# Altium integrated library TI_Logic_Little_Logic.IntLib: 1164 symbols (part 20 of 35)
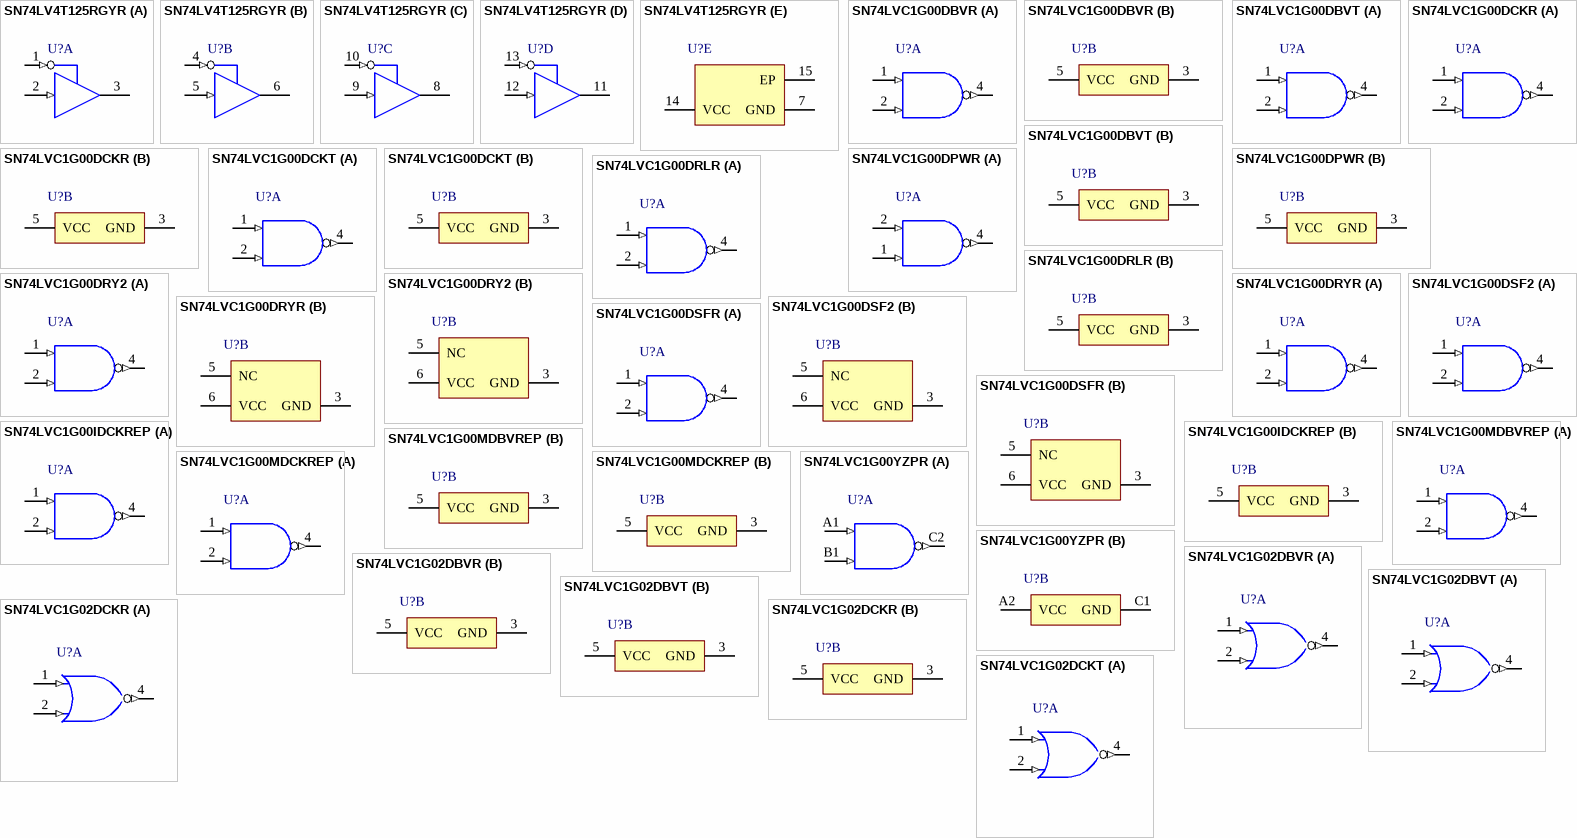
[diagram p79: symbols SN74LV4T125RGYR to SN74LVC1G02DCKT]

## SN74LVC1G00DCKT
designator U?
Single 2 Input Positive NAND Gate, DCK0005A, SMALL T&R; Generic Part Number: SN74LVC1G00; Manufacturer: Texas Instruments; PartNumber: SN74LVC1G00DCKT; VCC(Min)(V): 1.65; VCC(Max)(V): 5.5; Output Type: CMOS; ICC @ Nom Voltage(Max)(mA): 0.01; Input Type: CMOS/TTL; Bits(#): 1; F @ Nom Voltage(Max)(Mhz): 150; Rating: Catalog; Technology Family: LVC; Voltage(Nom)(V): 1.8,2.5,3.3,5; Schmitt Trigger: No; Output Drive (IOL/IOH)(Max)(mA): 32/-32; tpd @ Nom Voltage(Max)(ns): 9,5.5,4.7,4; Logic: True; DatasheetVersion: SCES212AB; PackageReference: DCK0005A; Supplier 1: Mouser; Supplier Part Number 1: 595-SN74LVC1G00DCKT; Supplier 2: Digi-Key; Supplier Part Number 2: 296-26587-2-ND; Supplier 3: Digi-Key; Supplier Part Number 3: 296-26587-1-ND; Supplier 4: Digi-Key; Supplier Part Number 4: 296-26587-6-ND; Operating Temperature Range(C): -40 to 125,-40 to 85; Gate Type: NAND; Sub-Family: NAND Gate; 3-State Output: No; ComponentLink1Description: Manufacturer URL; ComponentLink1URL: http://www.ti.com/; ComponentLink2Description: Datasheet; ComponentLink2URL: http://www.ti.com/lit/ds/symlink/sn74lvc1g00.pdf
footprint DCK0005A_N (SOT23, 5-Leads, Body 2.15x1.4mm, Pitch 0.65mm, IPC Medium Density)
footprint DCK0005A_M (SOT23, 5-Leads, Body 2.15x1.4mm, Pitch 0.65mm, IPC Low Density)
footprint DCK0005A_L (SOT23, 5-Leads, Body 2.15x1.4mm, Pitch 0.65mm, IPC High Density)
part A pins: 1 A (in) "Input A", 2 B (in) "Input B", 4 Y (out) "Output Y"
part B pins: 3 GND (power) "Ground Pin", 5 VCC (power) "Power Pin"

## SN74LVC1G00DPWR
designator U?
Single 2 Input Positive NAND Gate, DPW0004A, LARGE T&R; Generic Part Number: SN74LVC1G00; Manufacturer: Texas Instruments; PartNumber: SN74LVC1G00DPWR; VCC(Min)(V): 1.65; VCC(Max)(V): 5.5; Output Type: CMOS; ICC @ Nom Voltage(Max)(mA): 0.01; Input Type: CMOS/TTL; Bits(#): 1; F @ Nom Voltage(Max)(Mhz): 150; Rating: Catalog; Technology Family: LVC; Voltage(Nom)(V): 1.8,2.5,3.3,5; Schmitt Trigger: No; Output Drive (IOL/IOH)(Max)(mA): 32/-32; tpd @ Nom Voltage(Max)(ns): 9,5.5,4.7,4; Logic: True; DatasheetVersion: SCES212AB; PackageReference: DPW0004A; Supplier 1: Mouser; Supplier Part Number 1: 595-SN74LVC1G00DPWR; Supplier 2: Digi-Key; Supplier Part Number 2: 296-37554-2-ND; Supplier 3: Digi-Key; Supplier Part Number 3: 296-37554-1-ND; Supplier 4: Digi-Key; Supplier Part Number 4: 296-37554-6-ND; Operating Temperature Range(C): -40 to 125,-40 to 85; Gate Type: NAND; Sub-Family: NAND Gate; 3-State Output: No; ComponentLink1Description: Manufacturer URL; ComponentLink1URL: http://www.ti.com/; ComponentLink2Description: Datasheet; ComponentLink2URL: http://www.ti.com/lit/ds/symlink/sn74lvc1g00.pdf
footprint DPW0004A_V (SON, 5-Leads, Body 0.8x0.8mm, TI Recommend)
part A pins: 1 B (in) "Input B", 2 A (in) "Input A", 4 Y (out) "Output Y"
part B pins: 3 GND (power) "Ground", 5 VCC (power) "Power Pin"

## SN74LVC1G00DRLR
designator U?
Single 2 Input Positive NAND Gate, DRL0005A, LARGE T&R; Generic Part Number: SN74LVC1G00; Manufacturer: Texas Instruments; PartNumber: SN74LVC1G00DRLR; VCC(Min)(V): 1.65; VCC(Max)(V): 5.5; Output Type: CMOS; ICC @ Nom Voltage(Max)(mA): 0.01; Input Type: CMOS/TTL; Bits(#): 1; F @ Nom Voltage(Max)(Mhz): 150; Rating: Catalog; Technology Family: LVC; Voltage(Nom)(V): 1.8,2.5,3.3,5; Schmitt Trigger: No; Output Drive (IOL/IOH)(Max)(mA): 32/-32; tpd @ Nom Voltage(Max)(ns): 9,5.5,4.7,4; Logic: True; DatasheetVersion: SCES212AB; PackageReference: DRL0005A; Supplier 1: Mouser; Supplier Part Number 1: 595-SN74LVC1G00DRLR; Supplier 2: Digi-Key; Supplier Part Number 2: 296-18007-2-ND; Supplier 3: Digi-Key; Supplier Part Number 3: 296-18007-1-ND; Supplier 4: Digi-Key; Supplier Part Number 4: 296-18007-6-ND; Operating Temperature Range(C): -40 to 125,-40 to 85; Gate Type: NAND; Sub-Family: NAND Gate; 3-State Output: No; ComponentLink1Description: Manufacturer URL; ComponentLink1URL: http://www.ti.com/; ComponentLink2Description: Datasheet; ComponentLink2URL: http://www.ti.com/lit/ds/symlink/sn74lvc1g00.pdf
footprint DRL0005A_N (SOT23, 5-Leads, Body 1.7x1.3mm, Pitch 0.5mm, IPC Medium Density)
footprint DRL0005A_M (SOT23, 5-Leads, Body 1.7x1.3mm, Pitch 0.5mm, IPC Low Density)
footprint DRL0005A_L (SOT23, 5-Leads, Body 1.7x1.3mm, Pitch 0.5mm, IPC High Density)
part A pins: 1 A (in) "Input A", 2 B (in) "Input B", 4 Y (out) "Output Y"
part B pins: 3 GND (power) "Ground Pin", 5 VCC (power) "Power Pin"

## SN74LVC1G00DRY2
designator U?
Single 2 Input Positive NAND Gate, DRY0006A, LARGE T&R; Generic Part Number: SN74LVC1G00; Manufacturer: Texas Instruments; PartNumber: SN74LVC1G00DRY2; VCC(Min)(V): 1.65; VCC(Max)(V): 5.5; Output Type: CMOS; ICC @ Nom Voltage(Max)(mA): 0.01; Input Type: CMOS/TTL; Bits(#): 1; F @ Nom Voltage(Max)(Mhz): 150; Rating: Catalog; Technology Family: LVC; Voltage(Nom)(V): 1.8,2.5,3.3,5; Schmitt Trigger: No; Output Drive (IOL/IOH)(Max)(mA): 32/-32; tpd @ Nom Voltage(Max)(ns): 9,5.5,4.7,4; Logic: True; DatasheetVersion: SCES212AB; PackageReference: DRY0006A; Supplier 1: Mouser; Supplier Part Number 1: 595-SN74LVC1G00DRY2; Supplier 2: Digi-Key; Supplier Part Number 2: SN74LVC1G00DRY2-ND; Operating Temperature Range(C): -40 to 125,-40 to 85; Gate Type: NAND; Sub-Family: NAND Gate; 3-State Output: No; ComponentLink1Description: Manufacturer URL; ComponentLink1URL: http://www.ti.com/; ComponentLink2Description: Datasheet; ComponentLink2URL: http://www.ti.com/lit/ds/symlink/sn74lvc1g00.pdf
footprint DRY0006A_V (SON, 6-Leads, Body 1.45x1mm, Pitch 0.5mm)
part A pins: 1 A (in) "Input", 2 B (in) "Input", 4 Y (out) "Output"
part B pins: 3 GND (power) "Ground", 5 NC "No internal connection", 6 VCC (power) "Power Pin"

## SN74LVC1G00DRYR
designator U?
Single 2 Input Positive NAND Gate, DRY0006A, LARGE T&R; Generic Part Number: SN74LVC1G00; Manufacturer: Texas Instruments; PartNumber: SN74LVC1G00DRYR; VCC(Min)(V): 1.65; VCC(Max)(V): 5.5; Output Type: CMOS; ICC @ Nom Voltage(Max)(mA): 0.01; Input Type: CMOS/TTL; Bits(#): 1; F @ Nom Voltage(Max)(Mhz): 150; Rating: Catalog; Technology Family: LVC; Voltage(Nom)(V): 1.8,2.5,3.3,5; Schmitt Trigger: No; Output Drive (IOL/IOH)(Max)(mA): 32/-32; tpd @ Nom Voltage(Max)(ns): 9,5.5,4.7,4; Logic: True; DatasheetVersion: SCES212AB; PackageReference: DRY0006A; Supplier 1: Mouser; Supplier Part Number 1: 595-SN74LVC1G00DRYR; Supplier 2: Digi-Key; Supplier Part Number 2: 296-28371-2-ND; Supplier 3: Digi-Key; Supplier Part Number 3: 296-28371-1-ND; Supplier 4: Digi-Key; Supplier Part Number 4: 296-28371-6-ND; Operating Temperature Range(C): -40 to 125,-40 to 85; Gate Type: NAND; Sub-Family: NAND Gate; 3-State Output: No; ComponentLink1Description: Manufacturer URL; ComponentLink1URL: http://www.ti.com/; ComponentLink2Description: Datasheet; ComponentLink2URL: http://www.ti.com/lit/ds/symlink/sn74lvc1g00.pdf
footprint DRY0006A_V (SON, 6-Leads, Body 1.45x1mm, Pitch 0.5mm)
part A pins: 1 A (in) "Input", 2 B (in) "Input", 4 Y (out) "Output"
part B pins: 3 GND (power) "Ground", 5 NC "No internal connection", 6 VCC (power) "Power Pin"

## SN74LVC1G00DSF2
designator U?
Single 2 Input Positive NAND Gate, DSF0006A, LARGE T&R; Generic Part Number: SN74LVC1G00; Manufacturer: Texas Instruments; PartNumber: SN74LVC1G00DSF2; VCC(Min)(V): 1.65; VCC(Max)(V): 5.5; Output Type: CMOS; ICC @ Nom Voltage(Max)(mA): 0.01; Input Type: CMOS/TTL; Bits(#): 1; F @ Nom Voltage(Max)(Mhz): 150; Rating: Catalog; Technology Family: LVC; Voltage(Nom)(V): 1.8,2.5,3.3,5; Schmitt Trigger: No; Output Drive (IOL/IOH)(Max)(mA): 32/-32; tpd @ Nom Voltage(Max)(ns): 9,5.5,4.7,4; Logic: True; DatasheetVersion: SCES212AB; PackageReference: DSF0006A; Supplier 1: Mouser; Supplier Part Number 1: 595-SN74LVC1G00DSF2; Supplier 2: Digi-Key; Supplier Part Number 2: SN74LVC1G00DSF2-ND; Operating Temperature Range(C): -40 to 125,-40 to 85; Gate Type: NAND; Sub-Family: NAND Gate; 3-State Output: No; ComponentLink1Description: Manufacturer URL; ComponentLink1URL: http://www.ti.com/; ComponentLink2Description: Datasheet; ComponentLink2URL: http://www.ti.com/lit/ds/symlink/sn74lvc1g00.pdf
footprint DSF0006A_V (SON, 6-Leads, Body 1x1mm, Pitch 0.35mm, TI Recommend)
part A pins: 1 A (in) "Input", 2 B (in) "Input", 4 Y (out) "Output"
part B pins: 3 GND (power) "Ground", 5 NC "No internal connection", 6 VCC (power) "Power Pin"

## SN74LVC1G00DSFR
designator U?
Single 2 Input Positive NAND Gate, DSF0006A, LARGE T&R; Generic Part Number: SN74LVC1G00; Manufacturer: Texas Instruments; PartNumber: SN74LVC1G00DSFR; VCC(Min)(V): 1.65; VCC(Max)(V): 5.5; Output Type: CMOS; ICC @ Nom Voltage(Max)(mA): 0.01; Input Type: CMOS/TTL; Bits(#): 1; F @ Nom Voltage(Max)(Mhz): 150; Rating: Catalog; Technology Family: LVC; Voltage(Nom)(V): 1.8,2.5,3.3,5; Schmitt Trigger: No; Output Drive (IOL/IOH)(Max)(mA): 32/-32; tpd @ Nom Voltage(Max)(ns): 9,5.5,4.7,4; Logic: True; DatasheetVersion: SCES212AB; PackageReference: DSF0006A; Supplier 1: Mouser; Supplier Part Number 1: 595-SN74LVC1G00DSFR; Supplier 2: Digi-Key; Supplier Part Number 2: 296-28372-2-ND; Supplier 3: Digi-Key; Supplier Part Number 3: 296-28372-1-ND; Supplier 4: Digi-Key; Supplier Part Number 4: 296-28372-6-ND; Operating Temperature Range(C): -40 to 125,-40 to 85; Gate Type: NAND; Sub-Family: NAND Gate; 3-State Output: No; ComponentLink1Description: Manufacturer URL; ComponentLink1URL: http://www.ti.com/; ComponentLink2Description: Datasheet; ComponentLink2URL: http://www.ti.com/lit/ds/symlink/sn74lvc1g00.pdf
footprint DSF0006A_V (SON, 6-Leads, Body 1x1mm, Pitch 0.35mm, TI Recommend)
part A pins: 1 A (in) "Input", 2 B (in) "Input", 4 Y (out) "Output"
part B pins: 3 GND (power) "Ground", 5 NC "No internal connection", 6 VCC (power) "Power Pin"

## SN74LVC1G00IDCKREP
designator U?
Enhanced Product Single 2-Input Positive-Nand Gate, DCK0005A, LARGE T&R; Generic Part Number: SN74LVC1G00-EP; Manufacturer: Texas Instruments; PartNumber: SN74LVC1G00IDCKREP; VCC(Min)(V): 1.65; VCC(Max)(V): 5.5; Output Type: CMOS; ICC @ Nom Voltage(Max)(mA): 0.01; Input Type: CMOS/TTL; Bits(#): 1; F @ Nom Voltage(Max)(Mhz): 150; Rating: HiRel Enhanced Product; Technology Family: LVC; Voltage(Nom)(V): 1.8,2.5,3.3,5; Schmitt Trigger: No; Output Drive (IOL/IOH)(Max)(mA): 32/-32; tpd @ Nom Voltage(Max)(ns): 9,7,6.3,5; Logic: True; Gate Type: NAND; DatasheetVersion: SCES450D; PackageReference: DCK0005A; Supplier 1: Mouser; Supplier Part Number 1: 595-SN74LVC00IDCKREP; Supplier 2: Digi-Key; Supplier Part Number 2: 296-22337-2-ND; Supplier 3: Digi-Key; Supplier Part Number 3: 296-22337-1-ND; Supplier 4: Digi-Key; Supplier Part Number 4: 296-22337-6-ND; Operating Temperature Range(C): -40 to 85,-55 to 125; Sub-Family: NAND Gate; 3-State Output: No; ComponentLink1Description: Manufacturer URL; ComponentLink1URL: http://www.ti.com/; ComponentLink2Description: Datasheet; ComponentLink2URL: http://www.ti.com/lit/ds/symlink/sn74lvc1g00-ep.pdf
footprint DCK0005A_N (SOT23, 5-Leads, Body 2.15x1.4mm, Pitch 0.65mm, IPC Medium Density)
footprint DCK0005A_M (SOT23, 5-Leads, Body 2.15x1.4mm, Pitch 0.65mm, IPC Low Density)
footprint DCK0005A_L (SOT23, 5-Leads, Body 2.15x1.4mm, Pitch 0.65mm, IPC High Density)
part A pins: 1 A (in) "Input A", 2 B (in) "Input B", 4 Y (out) "Output Y"
part B pins: 3 GND (power) "Ground Pin", 5 VCC (power) "Power Pin"

## SN74LVC1G00MDBVREP
designator U?
Enhanced Product Single 2-Input Positive-Nand Gate, DBV0005A, LARGE T&R; Generic Part Number: SN74LVC1G00-EP; Manufacturer: Texas Instruments; PartNumber: SN74LVC1G00MDBVREP; VCC(Min)(V): 1.65; VCC(Max)(V): 5.5; Output Type: CMOS; ICC @ Nom Voltage(Max)(mA): 0.01; Input Type: CMOS/TTL; Bits(#): 1; F @ Nom Voltage(Max)(Mhz): 150; Rating: HiRel Enhanced Product; Technology Family: LVC; Voltage(Nom)(V): 1.8,2.5,3.3,5; Schmitt Trigger: No; Output Drive (IOL/IOH)(Max)(mA): 32/-32; tpd @ Nom Voltage(Max)(ns): 9,7,6.3,5; Logic: True; Gate Type: NAND; DatasheetVersion: SCES450D; PackageReference: DBV0005A; Supplier 1: Mouser; Supplier Part Number 1: 595-SN74LVC00MDBVREP; Supplier 2: Digi-Key; Supplier Part Number 2: 296-22338-2-ND; Supplier 3: Digi-Key; Supplier Part Number 3: 296-22338-1-ND; Supplier 4: Digi-Key; Supplier Part Number 4: 296-22338-6-ND; Operating Temperature Range(C): -40 to 85,-55 to 125; Sub-Family: NAND Gate; 3-State Output: No; ComponentLink1Description: Manufacturer URL; ComponentLink1URL: http://www.ti.com/; ComponentLink2Description: Datasheet; ComponentLink2URL: http://www.ti.com/lit/ds/symlink/sn74lvc1g00-ep.pdf
footprint DBV0005A_N (SOT23, 5-Leads, Body 3.05x1.75mm, Pitch 0.95mm, IPC Medium Density)
footprint DBV0005A_M (SOT23, 5-Leads, Body 3.05x1.75mm, Pitch 0.95mm, IPC Low Density)
footprint DBV0005A_L (SOT23, 5-Leads, Body 3.05x1.75mm, Pitch 0.95mm, IPC High Density)
part A pins: 1 A (in) "Input A", 2 B (in) "Input B", 4 Y (out) "Output Y"
part B pins: 3 GND (power) "Ground Pin", 5 VCC (power) "Power Pin"

## SN74LVC1G00MDCKREP
designator U?
Enhanced Product Single 2-Input Positive-Nand Gate, DCK0005A, LARGE T&R; Generic Part Number: SN74LVC1G00-EP; Manufacturer: Texas Instruments; PartNumber: SN74LVC1G00MDCKREP; VCC(Min)(V): 1.65; VCC(Max)(V): 5.5; Output Type: CMOS; ICC @ Nom Voltage(Max)(mA): 0.01; Input Type: CMOS/TTL; Bits(#): 1; F @ Nom Voltage(Max)(Mhz): 150; Rating: HiRel Enhanced Product; Technology Family: LVC; Voltage(Nom)(V): 1.8,2.5,3.3,5; Schmitt Trigger: No; Output Drive (IOL/IOH)(Max)(mA): 32/-32; tpd @ Nom Voltage(Max)(ns): 9,7,6.3,5; Logic: True; Gate Type: NAND; DatasheetVersion: SCES450D; PackageReference: DCK0005A; Supplier 1: Mouser; Supplier Part Number 1: 595-SN74LVC00MDCKREP; Supplier 2: Digi-Key; Supplier Part Number 2: 296-22339-2-ND; Supplier 3: Digi-Key; Supplier Part Number 3: 296-22339-1-ND; Supplier 4: Digi-Key; Supplier Part Number 4: 296-22339-6-ND; Operating Temperature Range(C): -40 to 85,-55 to 125; Sub-Family: NAND Gate; 3-State Output: No; ComponentLink1Description: Manufacturer URL; ComponentLink1URL: http://www.ti.com/; ComponentLink2Description: Datasheet; ComponentLink2URL: http://www.ti.com/lit/ds/symlink/sn74lvc1g00-ep.pdf
footprint DCK0005A_N (SOT23, 5-Leads, Body 2.15x1.4mm, Pitch 0.65mm, IPC Medium Density)
footprint DCK0005A_M (SOT23, 5-Leads, Body 2.15x1.4mm, Pitch 0.65mm, IPC Low Density)
footprint DCK0005A_L (SOT23, 5-Leads, Body 2.15x1.4mm, Pitch 0.65mm, IPC High Density)
part A pins: 1 A (in) "Input A", 2 B (in) "Input B", 4 Y (out) "Output Y"
part B pins: 3 GND (power) "Ground Pin", 5 VCC (power) "Power Pin"

## SN74LVC1G00YZPR
designator U?
Single 2 Input Positive NAND Gate, YZP0005ADAD, LARGE T&R; Generic Part Number: SN74LVC1G00; Manufacturer: Texas Instruments; PartNumber: SN74LVC1G00YZPR; VCC(Min)(V): 1.65; VCC(Max)(V): 5.5; Output Type: CMOS; ICC @ Nom Voltage(Max)(mA): 0.01; Input Type: CMOS/TTL; Bits(#): 1; F @ Nom Voltage(Max)(Mhz): 150; Rating: Catalog; Technology Family: LVC; Voltage(Nom)(V): 1.8,2.5,3.3,5; Schmitt Trigger: No; Output Drive (IOL/IOH)(Max)(mA): 32/-32; tpd @ Nom Voltage(Max)(ns): 9,5.5,4.7,4; Logic: True; DatasheetVersion: SCES212AB; PackageReference: YZP0005ADAD; Supplier 1: Mouser; Supplier Part Number 1: 595-SN74LVC1G00YZPR; Supplier 2: Digi-Key; Supplier Part Number 2: 296-14353-2-ND; Supplier 3: Digi-Key; Supplier Part Number 3: 296-14353-1-ND; Supplier 4: Digi-Key; Supplier Part Number 4: 296-14353-6-ND; Operating Temperature Range(C): -40 to 125,-40 to 85; Gate Type: NAND; Sub-Family: NAND Gate; 3-State Output: No; ComponentLink1Description: Manufacturer URL; ComponentLink1URL: http://www.ti.com/; ComponentLink2Description: Datasheet; ComponentLink2URL: http://www.ti.com/lit/ds/symlink/sn74lvc1g00.pdf
footprint YZP0005ADAD (BGA, 5-Balls, Body 1.39x0.89mm, Pitch 0.5mm)
part A pins: A1 A (in) "Input A", B1 B (in) "Input B", C2 Y (out) "Output Y"
part B pins: A2 VCC (power) "Power Pin", C1 GND (power) "Ground"

## SN74LVC1G02DBVR
designator U?
Single 2-Input Positive-NOR Gate, DBV0005A, LARGE T&R; Generic Part Number: SN74LVC1G02; Manufacturer: Texas Instruments; PartNumber: SN74LVC1G02DBVR; VCC(Min)(V): 1.65; VCC(Max)(V): 5.5; Output Type: CMOS; ICC @ Nom Voltage(Max)(mA): 0.01; Input Type: CMOS/TTL; Bits(#): 1; F @ Nom Voltage(Max)(Mhz): 150; Rating: Catalog; Technology Family: LVC; Voltage(Nom)(V): 1.8,2.5,3.3,5; Schmitt Trigger: No; Output Drive (IOL/IOH)(Max)(mA): 32/-32; tpd @ Nom Voltage(Max)(ns): 8,5.5,4.5,4; Logic: True; Gate Type: NOR; DatasheetVersion: SCES213X; PackageReference: DBV0005A; Supplier 1: Mouser; Supplier Part Number 1: 595-SN74LVC1G02DBVR; Supplier 2: Digi-Key; Supplier Part Number 2: 296-11597-2-ND; Supplier 3: Digi-Key; Supplier Part Number 3: 296-11597-1-ND; Supplier 4: Digi-Key; Supplier Part Number 4: 296-11597-6-ND; Operating Temperature Range(C): -40 to 125,-40 to 85; Sub-Family: NOR Gate; 3-State Output: No; ComponentLink1Description: Manufacturer URL; ComponentLink1URL: http://www.ti.com/; ComponentLink2Description: Datasheet; ComponentLink2URL: http://www.ti.com/lit/ds/symlink/sn74lvc1g02.pdf
footprint DBV0005A_N (SOT23, 5-Leads, Body 3.05x1.75mm, Pitch 0.95mm, IPC Medium Density)
footprint DBV0005A_M (SOT23, 5-Leads, Body 3.05x1.75mm, Pitch 0.95mm, IPC Low Density)
footprint DBV0005A_L (SOT23, 5-Leads, Body 3.05x1.75mm, Pitch 0.95mm, IPC High Density)
part A pins: 1 A (in) "Input A", 2 B (in) "Input B", 4 Y (out) "Output Y"
part B pins: 3 GND (power) "Ground Pin", 5 VCC (power) "Power Pin"

## SN74LVC1G02DBVT
designator U?
Single 2-Input Positive-NOR Gate, DBV0005A, SMALL T&R; Generic Part Number: SN74LVC1G02; Manufacturer: Texas Instruments; PartNumber: SN74LVC1G02DBVT; VCC(Min)(V): 1.65; VCC(Max)(V): 5.5; Output Type: CMOS; ICC @ Nom Voltage(Max)(mA): 0.01; Input Type: CMOS/TTL; Bits(#): 1; F @ Nom Voltage(Max)(Mhz): 150; Rating: Catalog; Technology Family: LVC; Voltage(Nom)(V): 1.8,2.5,3.3,5; Schmitt Trigger: No; Output Drive (IOL/IOH)(Max)(mA): 32/-32; tpd @ Nom Voltage(Max)(ns): 8,5.5,4.5,4; Logic: True; Gate Type: NOR; DatasheetVersion: SCES213X; PackageReference: DBV0005A; Supplier 1: Mouser; Supplier Part Number 1: 595-SN74LVC1G02DBVT; Supplier 2: Digi-Key; Supplier Part Number 2: 296-32287-2-ND; Supplier 3: Digi-Key; Supplier Part Number 3: 296-32287-1-ND; Supplier 4: Digi-Key; Supplier Part Number 4: 296-32287-6-ND; Operating Temperature Range(C): -40 to 125,-40 to 85; Sub-Family: NOR Gate; 3-State Output: No; ComponentLink1Description: Manufacturer URL; ComponentLink1URL: http://www.ti.com/; ComponentLink2Description: Datasheet; ComponentLink2URL: http://www.ti.com/lit/ds/symlink/sn74lvc1g02.pdf
footprint DBV0005A_N (SOT23, 5-Leads, Body 3.05x1.75mm, Pitch 0.95mm, IPC Medium Density)
footprint DBV0005A_M (SOT23, 5-Leads, Body 3.05x1.75mm, Pitch 0.95mm, IPC Low Density)
footprint DBV0005A_L (SOT23, 5-Leads, Body 3.05x1.75mm, Pitch 0.95mm, IPC High Density)
part A pins: 1 A (in) "Input A", 2 B (in) "Input B", 4 Y (out) "Output Y"
part B pins: 3 GND (power) "Ground Pin", 5 VCC (power) "Power Pin"

## SN74LVC1G02DCKR
designator U?
Single 2-Input Positive-NOR Gate, DCK0005A, LARGE T&R; Generic Part Number: SN74LVC1G02; Manufacturer: Texas Instruments; PartNumber: SN74LVC1G02DCKR; VCC(Min)(V): 1.65; VCC(Max)(V): 5.5; Output Type: CMOS; ICC @ Nom Voltage(Max)(mA): 0.01; Input Type: CMOS/TTL; Bits(#): 1; F @ Nom Voltage(Max)(Mhz): 150; Rating: Catalog; Technology Family: LVC; Voltage(Nom)(V): 1.8,2.5,3.3,5; Schmitt Trigger: No; Output Drive (IOL/IOH)(Max)(mA): 32/-32; tpd @ Nom Voltage(Max)(ns): 8,5.5,4.5,4; Logic: True; Gate Type: NOR; DatasheetVersion: SCES213X; PackageReference: DCK0005A; Supplier 1: Mouser; Supplier Part Number 1: 595-SN74LVC1G02DCKR; Supplier 2: Digi-Key; Supplier Part Number 2: 296-11598-2-ND; Supplier 3: Digi-Key; Supplier Part Number 3: 296-11598-1-ND; Supplier 4: Digi-Key; Supplier Part Number 4: 296-11598-6-ND; Operating Temperature Range(C): -40 to 125,-40 to 85; Sub-Family: NOR Gate; 3-State Output: No; ComponentLink1Description: Manufacturer URL; ComponentLink1URL: http://www.ti.com/; ComponentLink2Description: Datasheet; ComponentLink2URL: http://www.ti.com/lit/ds/symlink/sn74lvc1g02.pdf
footprint DCK0005A_N (SOT23, 5-Leads, Body 2.15x1.4mm, Pitch 0.65mm, IPC Medium Density)
footprint DCK0005A_M (SOT23, 5-Leads, Body 2.15x1.4mm, Pitch 0.65mm, IPC Low Density)
footprint DCK0005A_L (SOT23, 5-Leads, Body 2.15x1.4mm, Pitch 0.65mm, IPC High Density)
part A pins: 1 A (in) "Input A", 2 B (in) "Input B", 4 Y (out) "Output Y"
part B pins: 3 GND (power) "Ground Pin", 5 VCC (power) "Power Pin"

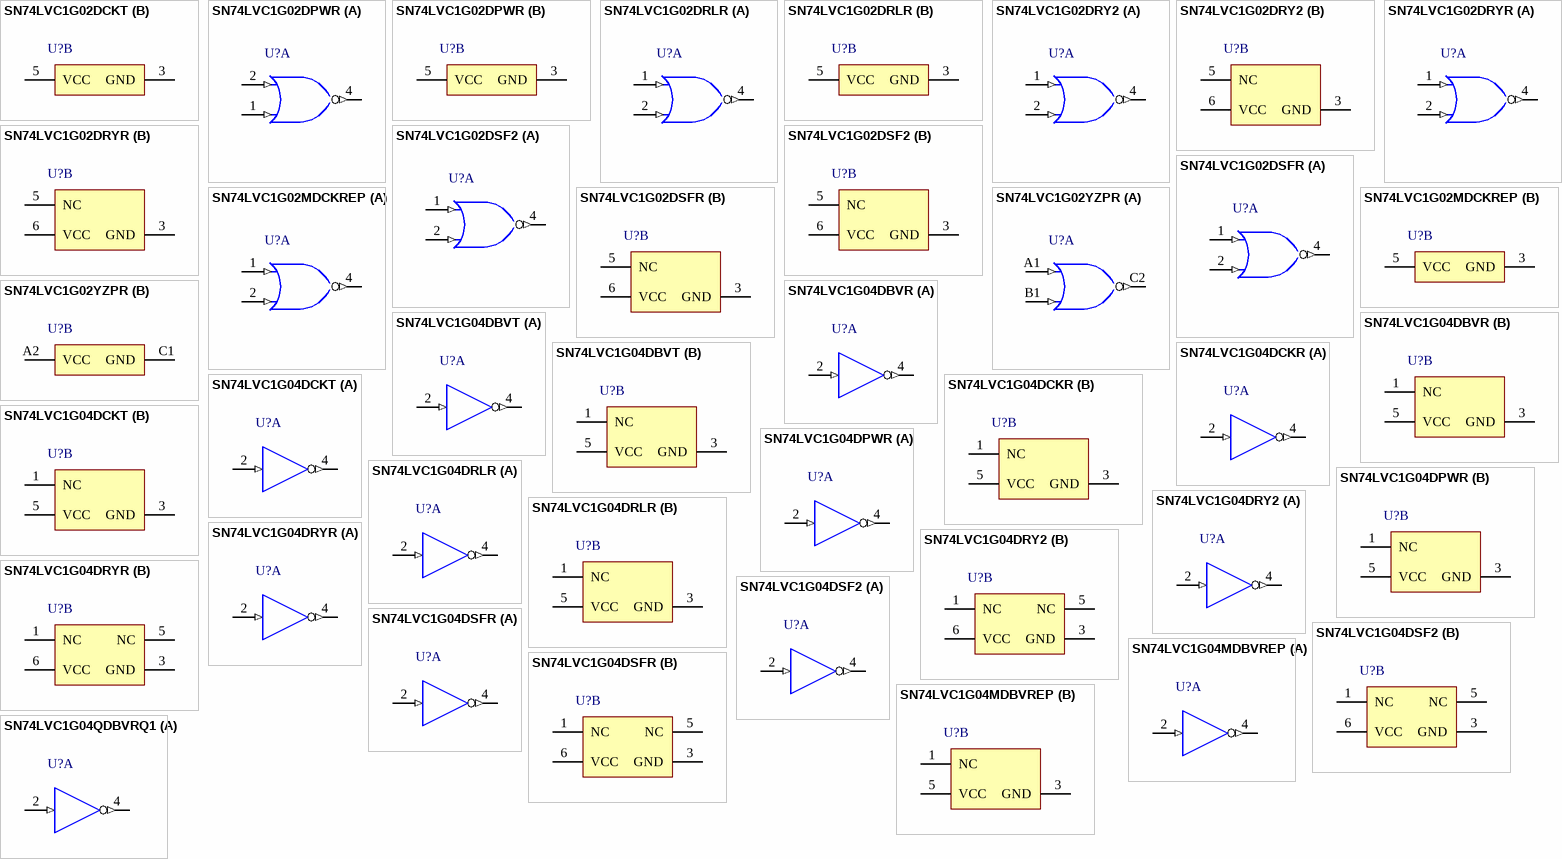
[diagram p34: symbols SN74LVC1G02DCKT to SN74LVC1G04QDBVRQ1]

## SN74LVC1G02DCKT
designator U?
Single 2-Input Positive-NOR Gate, DCK0005A, SMALL T&R; Generic Part Number: SN74LVC1G02; Manufacturer: Texas Instruments; PartNumber: SN74LVC1G02DCKT; VCC(Min)(V): 1.65; VCC(Max)(V): 5.5; Output Type: CMOS; ICC @ Nom Voltage(Max)(mA): 0.01; Input Type: CMOS/TTL; Bits(#): 1; F @ Nom Voltage(Max)(Mhz): 150; Rating: Catalog; Technology Family: LVC; Voltage(Nom)(V): 1.8,2.5,3.3,5; Schmitt Trigger: No; Output Drive (IOL/IOH)(Max)(mA): 32/-32; tpd @ Nom Voltage(Max)(ns): 8,5.5,4.5,4; Logic: True; Gate Type: NOR; DatasheetVersion: SCES213X; PackageReference: DCK0005A; Supplier 1: Mouser; Supplier Part Number 1: 595-SN74LVC1G02DCKT; Supplier 2: Digi-Key; Supplier Part Number 2: 296-32288-2-ND; Supplier 3: Digi-Key; Supplier Part Number 3: 296-32288-1-ND; Supplier 4: Digi-Key; Supplier Part Number 4: 296-32288-6-ND; Operating Temperature Range(C): -40 to 125,-40 to 85; Sub-Family: NOR Gate; 3-State Output: No; ComponentLink1Description: Manufacturer URL; ComponentLink1URL: http://www.ti.com/; ComponentLink2Description: Datasheet; ComponentLink2URL: http://www.ti.com/lit/ds/symlink/sn74lvc1g02.pdf
footprint DCK0005A_N (SOT23, 5-Leads, Body 2.15x1.4mm, Pitch 0.65mm, IPC Medium Density)
footprint DCK0005A_M (SOT23, 5-Leads, Body 2.15x1.4mm, Pitch 0.65mm, IPC Low Density)
footprint DCK0005A_L (SOT23, 5-Leads, Body 2.15x1.4mm, Pitch 0.65mm, IPC High Density)
part A pins: 1 A (in) "Input A", 2 B (in) "Input B", 4 Y (out) "Output Y"
part B pins: 3 GND (power) "Ground Pin", 5 VCC (power) "Power Pin"

## SN74LVC1G02DPWR
designator U?
Single 2-Input Positive-NOR Gate, DPW0004A, LARGE T&R; Generic Part Number: SN74LVC1G02; Manufacturer: Texas Instruments; PartNumber: SN74LVC1G02DPWR; VCC(Min)(V): 1.65; VCC(Max)(V): 5.5; Output Type: CMOS; ICC @ Nom Voltage(Max)(mA): 0.01; Input Type: CMOS/TTL; Bits(#): 1; F @ Nom Voltage(Max)(Mhz): 150; Rating: Catalog; Technology Family: LVC; Voltage(Nom)(V): 1.8,2.5,3.3,5; Schmitt Trigger: No; Output Drive (IOL/IOH)(Max)(mA): 32/-32; tpd @ Nom Voltage(Max)(ns): 8,5.5,4.5,4; Logic: True; Gate Type: NOR; DatasheetVersion: SCES213X; PackageReference: DPW0004A; Supplier 1: Mouser; Supplier Part Number 1: 595-SN74LVC1G02DPWR; Supplier 2: Digi-Key; Supplier Part Number 2: 296-37757-2-ND; Supplier 3: Digi-Key; Supplier Part Number 3: 296-37757-1-ND; Supplier 4: Digi-Key; Supplier Part Number 4: 296-37757-6-ND; Operating Temperature Range(C): -40 to 125,-40 to 85; Sub-Family: NOR Gate; 3-State Output: No; ComponentLink1Description: Manufacturer URL; ComponentLink1URL: http://www.ti.com/; ComponentLink2Description: Datasheet; ComponentLink2URL: http://www.ti.com/lit/ds/symlink/sn74lvc1g02.pdf
footprint DPW0004A_V (SON, 5-Leads, Body 0.8x0.8mm, TI Recommend)
part A pins: 1 B (in) "Input B", 2 A (in) "Input A", 4 Y (out) "Output Y"
part B pins: 3 GND (power) "Ground", 5 VCC (power) "Power Pin"

## SN74LVC1G02DRLR
designator U?
Single 2-Input Positive-NOR Gate, DRL0005A, LARGE T&R; Generic Part Number: SN74LVC1G02; Manufacturer: Texas Instruments; PartNumber: SN74LVC1G02DRLR; VCC(Min)(V): 1.65; VCC(Max)(V): 5.5; Output Type: CMOS; ICC @ Nom Voltage(Max)(mA): 0.01; Input Type: CMOS/TTL; Bits(#): 1; F @ Nom Voltage(Max)(Mhz): 150; Rating: Catalog; Technology Family: LVC; Voltage(Nom)(V): 1.8,2.5,3.3,5; Schmitt Trigger: No; Output Drive (IOL/IOH)(Max)(mA): 32/-32; tpd @ Nom Voltage(Max)(ns): 8,5.5,4.5,4; Logic: True; Gate Type: NOR; DatasheetVersion: SCES213X; PackageReference: DRL0005A; Supplier 1: Mouser; Supplier Part Number 1: 595-SN74LVC1G02DRLR; Supplier 2: Digi-Key; Supplier Part Number 2: 296-18318-2-ND; Supplier 3: Digi-Key; Supplier Part Number 3: 296-18318-1-ND; Supplier 4: Digi-Key; Supplier Part Number 4: 296-18318-6-ND; Operating Temperature Range(C): -40 to 125,-40 to 85; Sub-Family: NOR Gate; 3-State Output: No; ComponentLink1Description: Manufacturer URL; ComponentLink1URL: http://www.ti.com/; ComponentLink2Description: Datasheet; ComponentLink2URL: http://www.ti.com/lit/ds/symlink/sn74lvc1g02.pdf
footprint DRL0005A_N (SOT23, 5-Leads, Body 1.7x1.3mm, Pitch 0.5mm, IPC Medium Density)
footprint DRL0005A_M (SOT23, 5-Leads, Body 1.7x1.3mm, Pitch 0.5mm, IPC Low Density)
footprint DRL0005A_L (SOT23, 5-Leads, Body 1.7x1.3mm, Pitch 0.5mm, IPC High Density)
part A pins: 1 A (in) "Input A", 2 B (in) "Input B", 4 Y (out) "Output Y"
part B pins: 3 GND (power) "Ground Pin", 5 VCC (power) "Power Pin"

## SN74LVC1G02DRY2
designator U?
Single 2-Input Positive-NOR Gate, DRY0006A, LARGE T&R; Generic Part Number: SN74LVC1G02; Manufacturer: Texas Instruments; PartNumber: SN74LVC1G02DRY2; VCC(Min)(V): 1.65; VCC(Max)(V): 5.5; Output Type: CMOS; ICC @ Nom Voltage(Max)(mA): 0.01; Input Type: CMOS/TTL; Bits(#): 1; F @ Nom Voltage(Max)(Mhz): 150; Rating: Catalog; Technology Family: LVC; Voltage(Nom)(V): 1.8,2.5,3.3,5; Schmitt Trigger: No; Output Drive (IOL/IOH)(Max)(mA): 32/-32; tpd @ Nom Voltage(Max)(ns): 8,5.5,4.5,4; Logic: True; Gate Type: NOR; DatasheetVersion: SCES213X; PackageReference: DRY0006A; Supplier 1: Mouser; Supplier Part Number 1: 595-SN74LVC1G02DRY2; Supplier 2: Digi-Key; Supplier Part Number 2: SN74LVC1G02DRY2-ND; Operating Temperature Range(C): -40 to 125,-40 to 85; Sub-Family: NOR Gate; 3-State Output: No; ComponentLink1Description: Manufacturer URL; ComponentLink1URL: http://www.ti.com/; ComponentLink2Description: Datasheet; ComponentLink2URL: http://www.ti.com/lit/ds/symlink/sn74lvc1g02.pdf
footprint DRY0006A_V (SON, 6-Leads, Body 1.45x1mm, Pitch 0.5mm)
part A pins: 1 A (in) "Input A", 2 B (in) "Input B", 4 Y (out) "Output Y"
part B pins: 3 GND (power) "Ground", 5 NC "No internal connection", 6 VCC (power) "Power Pin"

## SN74LVC1G02DRYR
designator U?
Single 2-Input Positive-NOR Gate, DRY0006A, LARGE T&R; Generic Part Number: SN74LVC1G02; Manufacturer: Texas Instruments; PartNumber: SN74LVC1G02DRYR; VCC(Min)(V): 1.65; VCC(Max)(V): 5.5; Output Type: CMOS; ICC @ Nom Voltage(Max)(mA): 0.01; Input Type: CMOS/TTL; Bits(#): 1; F @ Nom Voltage(Max)(Mhz): 150; Rating: Catalog; Technology Family: LVC; Voltage(Nom)(V): 1.8,2.5,3.3,5; Schmitt Trigger: No; Output Drive (IOL/IOH)(Max)(mA): 32/-32; tpd @ Nom Voltage(Max)(ns): 8,5.5,4.5,4; Logic: True; Gate Type: NOR; DatasheetVersion: SCES213X; PackageReference: DRY0006A; Supplier 1: Mouser; Supplier Part Number 1: 595-SN74LVC1G02DRYR; Supplier 2: Digi-Key; Supplier Part Number 2: 296-28373-2-ND; Supplier 3: Digi-Key; Supplier Part Number 3: 296-28373-1-ND; Supplier 4: Digi-Key; Supplier Part Number 4: 296-28373-6-ND; Operating Temperature Range(C): -40 to 125,-40 to 85; Sub-Family: NOR Gate; 3-State Output: No; ComponentLink1Description: Manufacturer URL; ComponentLink1URL: http://www.ti.com/; ComponentLink2Description: Datasheet; ComponentLink2URL: http://www.ti.com/lit/ds/symlink/sn74lvc1g02.pdf
footprint DRY0006A_V (SON, 6-Leads, Body 1.45x1mm, Pitch 0.5mm)
part A pins: 1 A (in) "Input A", 2 B (in) "Input B", 4 Y (out) "Output Y"
part B pins: 3 GND (power) "Ground", 5 NC "No internal connection", 6 VCC (power) "Power Pin"

## SN74LVC1G02DSF2
designator U?
Single 2-Input Positive-NOR Gate, DSF0006A, LARGE T&R; Generic Part Number: SN74LVC1G02; Manufacturer: Texas Instruments; PartNumber: SN74LVC1G02DSF2; VCC(Min)(V): 1.65; VCC(Max)(V): 5.5; Output Type: CMOS; ICC @ Nom Voltage(Max)(mA): 0.01; Input Type: CMOS/TTL; Bits(#): 1; F @ Nom Voltage(Max)(Mhz): 150; Rating: Catalog; Technology Family: LVC; Voltage(Nom)(V): 1.8,2.5,3.3,5; Schmitt Trigger: No; Output Drive (IOL/IOH)(Max)(mA): 32/-32; tpd @ Nom Voltage(Max)(ns): 8,5.5,4.5,4; Logic: True; Gate Type: NOR; DatasheetVersion: SCES213X; PackageReference: DSF0006A; Supplier 1: Mouser; Supplier Part Number 1: 595-SN74LVC1G02DSF2; Supplier 2: Digi-Key; Supplier Part Number 2: SN74LVC1G02DSF2-ND; Operating Temperature Range(C): -40 to 125,-40 to 85; Sub-Family: NOR Gate; 3-State Output: No; ComponentLink1Description: Manufacturer URL; ComponentLink1URL: http://www.ti.com/; ComponentLink2Description: Datasheet; ComponentLink2URL: http://www.ti.com/lit/ds/symlink/sn74lvc1g02.pdf
footprint DSF0006A_V (SON, 6-Leads, Body 1x1mm, Pitch 0.35mm, TI Recommend)
part A pins: 1 A (in) "Input A", 2 B (in) "Input B", 4 Y (out) "Output Y"
part B pins: 3 GND (power) "Ground", 5 NC "No internal connection", 6 VCC (power) "Power Pin"

## SN74LVC1G02DSFR
designator U?
Single 2-Input Positive-NOR Gate, DSF0006A, LARGE T&R; Generic Part Number: SN74LVC1G02; Manufacturer: Texas Instruments; PartNumber: SN74LVC1G02DSFR; VCC(Min)(V): 1.65; VCC(Max)(V): 5.5; Output Type: CMOS; ICC @ Nom Voltage(Max)(mA): 0.01; Input Type: CMOS/TTL; Bits(#): 1; F @ Nom Voltage(Max)(Mhz): 150; Rating: Catalog; Technology Family: LVC; Voltage(Nom)(V): 1.8,2.5,3.3,5; Schmitt Trigger: No; Output Drive (IOL/IOH)(Max)(mA): 32/-32; tpd @ Nom Voltage(Max)(ns): 8,5.5,4.5,4; Logic: True; Gate Type: NOR; DatasheetVersion: SCES213X; PackageReference: DSF0006A; Supplier 1: Mouser; Supplier Part Number 1: 595-SN74LVC1G02DSFR; Supplier 2: Digi-Key; Supplier Part Number 2: 296-28374-2-ND; Supplier 3: Digi-Key; Supplier Part Number 3: 296-28374-1-ND; Supplier 4: Digi-Key; Supplier Part Number 4: 296-28374-6-ND; Operating Temperature Range(C): -40 to 125,-40 to 85; Sub-Family: NOR Gate; 3-State Output: No; ComponentLink1Description: Manufacturer URL; ComponentLink1URL: http://www.ti.com/; ComponentLink2Description: Datasheet; ComponentLink2URL: http://www.ti.com/lit/ds/symlink/sn74lvc1g02.pdf
footprint DSF0006A_V (SON, 6-Leads, Body 1x1mm, Pitch 0.35mm, TI Recommend)
part A pins: 1 A (in) "Input A", 2 B (in) "Input B", 4 Y (out) "Output Y"
part B pins: 3 GND (power) "Ground", 5 NC "No internal connection", 6 VCC (power) "Power Pin"

## SN74LVC1G02MDCKREP
designator U?
Enhanced Product Single 2-Input Positive-Nor Gate, DCK0005A, LARGE T&R; Generic Part Number: SN74LVC1G02-EP; Manufacturer: Texas Instruments; PartNumber: SN74LVC1G02MDCKREP; VCC(Min)(V): 1.65; VCC(Max)(V): 5.5; Output Type: CMOS; ICC @ Nom Voltage(Max)(mA): 0.01; Input Type: CMOS/TTL; Bits(#): 1; F @ Nom Voltage(Max)(Mhz): 150; Rating: HiRel Enhanced Product; Technology Family: LVC; Voltage(Nom)(V): 1.8,2.5,3.3,5; Schmitt Trigger: No; Output Drive (IOL/IOH)(Max)(mA): 32/-32; tpd @ Nom Voltage(Max)(ns): 10.7,7.3,6,5; Logic: True; Gate Type: NOR; DatasheetVersion: SGLS370; PackageReference: DCK0005A; Supplier 1: Mouser; Supplier Part Number 1: 595-SN74LVC02MDCKREP; Supplier 2: Digi-Key; Supplier Part Number 2: 296-22340-2-ND; Supplier 3: Digi-Key; Supplier Part Number 3: 296-22340-1-ND; Supplier 4: Digi-Key; Supplier Part Number 4: 296-22340-6-ND; Operating Temperature Range(C): -55 to 125; Sub-Family: NOR Gate; 3-State Output: No; ComponentLink1Description: Manufacturer URL; ComponentLink1URL: http://www.ti.com/; ComponentLink2Description: Datasheet; ComponentLink2URL: http://www.ti.com/lit/ds/symlink/sn74lvc1g02-ep.pdf
footprint DCK0005A_N (SOT23, 5-Leads, Body 2.15x1.4mm, Pitch 0.65mm, IPC Medium Density)
footprint DCK0005A_M (SOT23, 5-Leads, Body 2.15x1.4mm, Pitch 0.65mm, IPC Low Density)
footprint DCK0005A_L (SOT23, 5-Leads, Body 2.15x1.4mm, Pitch 0.65mm, IPC High Density)
part A pins: 1 A (in) "Input A", 2 B (in) "Input B", 4 Y (out) "Output Y"
part B pins: 3 GND (power) "Ground Pin", 5 VCC (power) "Power Pin"

## SN74LVC1G02YZPR
designator U?
Single 2-Input Positive-NOR Gate, YZP0005ADAD, LARGE T&R; Generic Part Number: SN74LVC1G02; Manufacturer: Texas Instruments; PartNumber: SN74LVC1G02YZPR; VCC(Min)(V): 1.65; VCC(Max)(V): 5.5; Output Type: CMOS; ICC @ Nom Voltage(Max)(mA): 0.01; Input Type: CMOS/TTL; Bits(#): 1; F @ Nom Voltage(Max)(Mhz): 150; Rating: Catalog; Technology Family: LVC; Voltage(Nom)(V): 1.8,2.5,3.3,5; Schmitt Trigger: No; Output Drive (IOL/IOH)(Max)(mA): 32/-32; tpd @ Nom Voltage(Max)(ns): 8,5.5,4.5,4; Logic: True; Gate Type: NOR; DatasheetVersion: SCES213X; PackageReference: YZP0005ADAD; Supplier 1: Mouser; Supplier Part Number 1: 595-SN74LVC1G02YZPR; Supplier 2: Digi-Key; Supplier Part Number 2: 296-23021-2-ND; Supplier 3: Digi-Key; Supplier Part Number 3: 296-23021-1-ND; Supplier 4: Digi-Key; Supplier Part Number 4: 296-23021-6-ND; Operating Temperature Range(C): -40 to 125,-40 to 85; Sub-Family: NOR Gate; 3-State Output: No; ComponentLink1Description: Manufacturer URL; ComponentLink1URL: http://www.ti.com/; ComponentLink2Description: Datasheet; ComponentLink2URL: http://www.ti.com/lit/ds/symlink/sn74lvc1g02.pdf
footprint YZP0005ADAD (BGA, 5-Balls, Body 1.39x0.89mm, Pitch 0.5mm)
part A pins: A1 A (in), B1 B (in), C2 Y (out)
part B pins: A2 VCC (power), C1 GND (power)

## SN74LVC1G04DBVR
designator U?
Single Inverter, DBV0005A, LARGE T&R; Generic Part Number: SN74LVC1G04; Manufacturer: Texas Instruments; PartNumber: SN74LVC1G04DBVR; VCC(Min)(V): 1.65; VCC(Max)(V): 5.5; Output Type: CMOS; ICC @ Nom Voltage(Max)(mA): 0.01; Input Type: CMOS/TTL; Bits(#): 1; F @ Nom Voltage(Max)(Mhz): 150; Rating: Catalog; Technology Family: LVC; Voltage(Nom)(V): 1.8,2.5,3.3,5; Schmitt Trigger: No; Output Drive (IOL/IOH)(Max)(mA): 32/-32; tpd @ Nom Voltage(Max)(ns): 7.5,5.2,4.2,3.7; Logic: Inverting; Sub-Family: Inverting Buffer/Driver; DatasheetVersion: SCES214AD; PackageReference: DBV0005A; Supplier 1: Mouser; Supplier Part Number 1: 595-SN74LVC1G04DBVR; Supplier 2: Digi-Key; Supplier Part Number 2: 296-11599-2-ND; Supplier 3: Digi-Key; Supplier Part Number 3: 296-11599-1-ND; Supplier 4: Digi-Key; Supplier Part Number 4: 296-11599-6-ND; Operating Temperature Range(C): -40 to 125,-40 to 85; 3-State Output: No; ComponentLink1Description: Manufacturer URL; ComponentLink1URL: http://www.ti.com/; ComponentLink2Description: Datasheet; ComponentLink2URL: http://www.ti.com/lit/ds/symlink/sn74lvc1g04.pdf
footprint DBV0005A_N (SOT23, 5-Leads, Body 3.05x1.75mm, Pitch 0.95mm, IPC Medium Density)
footprint DBV0005A_M (SOT23, 5-Leads, Body 3.05x1.75mm, Pitch 0.95mm, IPC Low Density)
footprint DBV0005A_L (SOT23, 5-Leads, Body 3.05x1.75mm, Pitch 0.95mm, IPC High Density)
part A pins: 2 A (in) "Input A", 4 Y (out) "Output Y"
part B pins: 1 NC "Ground", 3 GND (power) "Ground Pin", 5 VCC (power) "Power Pin"

## SN74LVC1G04DBVT
designator U?
Single Inverter, DBV0005A, SMALL T&R; Generic Part Number: SN74LVC1G04; Manufacturer: Texas Instruments; PartNumber: SN74LVC1G04DBVT; VCC(Min)(V): 1.65; VCC(Max)(V): 5.5; Output Type: CMOS; ICC @ Nom Voltage(Max)(mA): 0.01; Input Type: CMOS/TTL; Bits(#): 1; F @ Nom Voltage(Max)(Mhz): 150; Rating: Catalog; Technology Family: LVC; Voltage(Nom)(V): 1.8,2.5,3.3,5; Schmitt Trigger: No; Output Drive (IOL/IOH)(Max)(mA): 32/-32; tpd @ Nom Voltage(Max)(ns): 7.5,5.2,4.2,3.7; Logic: Inverting; Sub-Family: Inverting Buffer/Driver; DatasheetVersion: SCES214AD; PackageReference: DBV0005A; Supplier 1: Mouser; Supplier Part Number 1: 595-SN74LVC1G04DBVT; Supplier 2: Digi-Key; Supplier Part Number 2: 296-32289-2-ND; Supplier 3: Digi-Key; Supplier Part Number 3: 296-32289-1-ND; Supplier 4: Digi-Key; Supplier Part Number 4: 296-32289-6-ND; Operating Temperature Range(C): -40 to 125,-40 to 85; 3-State Output: No; ComponentLink1Description: Manufacturer URL; ComponentLink1URL: http://www.ti.com/; ComponentLink2Description: Datasheet; ComponentLink2URL: http://www.ti.com/lit/ds/symlink/sn74lvc1g04.pdf
footprint DBV0005A_N (SOT23, 5-Leads, Body 3.05x1.75mm, Pitch 0.95mm, IPC Medium Density)
footprint DBV0005A_M (SOT23, 5-Leads, Body 3.05x1.75mm, Pitch 0.95mm, IPC Low Density)
footprint DBV0005A_L (SOT23, 5-Leads, Body 3.05x1.75mm, Pitch 0.95mm, IPC High Density)
part A pins: 2 A (in) "Input A", 4 Y (out) "Output Y"
part B pins: 1 NC "Ground", 3 GND (power) "Ground Pin", 5 VCC (power) "Power Pin"

## SN74LVC1G04DCKR
designator U?
Single Inverter, DCK0005A, LARGE T&R; Generic Part Number: SN74LVC1G04; Manufacturer: Texas Instruments; PartNumber: SN74LVC1G04DCKR; VCC(Min)(V): 1.65; VCC(Max)(V): 5.5; Output Type: CMOS; ICC @ Nom Voltage(Max)(mA): 0.01; Input Type: CMOS/TTL; Bits(#): 1; F @ Nom Voltage(Max)(Mhz): 150; Rating: Catalog; Technology Family: LVC; Voltage(Nom)(V): 1.8,2.5,3.3,5; Schmitt Trigger: No; Output Drive (IOL/IOH)(Max)(mA): 32/-32; tpd @ Nom Voltage(Max)(ns): 7.5,5.2,4.2,3.7; Logic: Inverting; Sub-Family: Inverting Buffer/Driver; DatasheetVersion: SCES214AD; PackageReference: DCK0005A; Supplier 1: Mouser; Supplier Part Number 1: 595-SN74LVC1G04DCKR; Supplier 2: Digi-Key; Supplier Part Number 2: 296-11600-2-ND; Supplier 3: Digi-Key; Supplier Part Number 3: 296-11600-1-ND; Supplier 4: Digi-Key; Supplier Part Number 4: 296-11600-6-ND; Operating Temperature Range(C): -40 to 125,-40 to 85; 3-State Output: No; ComponentLink1Description: Manufacturer URL; ComponentLink1URL: http://www.ti.com/; ComponentLink2Description: Datasheet; ComponentLink2URL: http://www.ti.com/lit/ds/symlink/sn74lvc1g04.pdf
footprint DCK0005A_N (SOT23, 5-Leads, Body 2.15x1.4mm, Pitch 0.65mm, IPC Medium Density)
footprint DCK0005A_M (SOT23, 5-Leads, Body 2.15x1.4mm, Pitch 0.65mm, IPC Low Density)
footprint DCK0005A_L (SOT23, 5-Leads, Body 2.15x1.4mm, Pitch 0.65mm, IPC High Density)
part A pins: 2 A (in) "Input A", 4 Y (out) "Output Y"
part B pins: 1 NC "Ground", 3 GND (power) "Ground Pin", 5 VCC (power) "Power Pin"

## SN74LVC1G04DCKT
designator U?
Single Inverter, DCK0005A, SMALL T&R; Generic Part Number: SN74LVC1G04; Manufacturer: Texas Instruments; PartNumber: SN74LVC1G04DCKT; VCC(Min)(V): 1.65; VCC(Max)(V): 5.5; Output Type: CMOS; ICC @ Nom Voltage(Max)(mA): 0.01; Input Type: CMOS/TTL; Bits(#): 1; F @ Nom Voltage(Max)(Mhz): 150; Rating: Catalog; Technology Family: LVC; Voltage(Nom)(V): 1.8,2.5,3.3,5; Schmitt Trigger: No; Output Drive (IOL/IOH)(Max)(mA): 32/-32; tpd @ Nom Voltage(Max)(ns): 7.5,5.2,4.2,3.7; Logic: Inverting; Sub-Family: Inverting Buffer/Driver; DatasheetVersion: SCES214AD; PackageReference: DCK0005A; Supplier 1: Mouser; Supplier Part Number 1: 595-SN74LVC1G04DCKT; Supplier 2: Digi-Key; Supplier Part Number 2: 296-23673-2-ND; Supplier 3: Digi-Key; Supplier Part Number 3: 296-23673-1-ND; Supplier 4: Digi-Key; Supplier Part Number 4: 296-23673-6-ND; Operating Temperature Range(C): -40 to 125,-40 to 85; 3-State Output: No; ComponentLink1Description: Manufacturer URL; ComponentLink1URL: http://www.ti.com/; ComponentLink2Description: Datasheet; ComponentLink2URL: http://www.ti.com/lit/ds/symlink/sn74lvc1g04.pdf
footprint DCK0005A_N (SOT23, 5-Leads, Body 2.15x1.4mm, Pitch 0.65mm, IPC Medium Density)
footprint DCK0005A_M (SOT23, 5-Leads, Body 2.15x1.4mm, Pitch 0.65mm, IPC Low Density)
footprint DCK0005A_L (SOT23, 5-Leads, Body 2.15x1.4mm, Pitch 0.65mm, IPC High Density)
part A pins: 2 A (in) "Input A", 4 Y (out) "Output Y"
part B pins: 1 NC "Ground", 3 GND (power) "Ground Pin", 5 VCC (power) "Power Pin"

## SN74LVC1G04DPWR
designator U?
Single Inverter, DPW0004A, LARGE T&R; Generic Part Number: SN74LVC1G04; Manufacturer: Texas Instruments; PartNumber: SN74LVC1G04DPWR; VCC(Min)(V): 1.65; VCC(Max)(V): 5.5; Output Type: CMOS; ICC @ Nom Voltage(Max)(mA): 0.01; Input Type: CMOS/TTL; Bits(#): 1; F @ Nom Voltage(Max)(Mhz): 150; Rating: Catalog; Technology Family: LVC; Voltage(Nom)(V): 1.8,2.5,3.3,5; Schmitt Trigger: No; Output Drive (IOL/IOH)(Max)(mA): 32/-32; tpd @ Nom Voltage(Max)(ns): 7.5,5.2,4.2,3.7; Logic: Inverting; Sub-Family: Inverting Buffer/Driver; DatasheetVersion: SCES214AD; PackageReference: DPW0004A; Supplier 1: Mouser; Supplier Part Number 1: 595-SN74LVC1G04DPWR; Supplier 2: Digi-Key; Supplier Part Number 2: 296-37758-2-ND; Supplier 3: Digi-Key; Supplier Part Number 3: 296-37758-1-ND; Supplier 4: Digi-Key; Supplier Part Number 4: 296-37758-6-ND; Operating Temperature Range(C): -40 to 125,-40 to 85; 3-State Output: No; ComponentLink1Description: Manufacturer URL; ComponentLink1URL: http://www.ti.com/; ComponentLink2Description: Datasheet; ComponentLink2URL: http://www.ti.com/lit/ds/symlink/sn74lvc1g04.pdf
footprint DPW0004A_V (SON, 5-Leads, Body 0.8x0.8mm, TI Recommend)
part A pins: 2 A (in) "Input A", 4 Y (out) "Output Y"
part B pins: 1 NC "Ground", 3 GND (power) "Ground Pin", 5 VCC (power) "Power Pin"

## SN74LVC1G04DRLR
designator U?
Single Inverter, DRL0005A, LARGE T&R; Generic Part Number: SN74LVC1G04; Manufacturer: Texas Instruments; PartNumber: SN74LVC1G04DRLR; VCC(Min)(V): 1.65; VCC(Max)(V): 5.5; Output Type: CMOS; ICC @ Nom Voltage(Max)(mA): 0.01; Input Type: CMOS/TTL; Bits(#): 1; F @ Nom Voltage(Max)(Mhz): 150; Rating: Catalog; Technology Family: LVC; Voltage(Nom)(V): 1.8,2.5,3.3,5; Schmitt Trigger: No; Output Drive (IOL/IOH)(Max)(mA): 32/-32; tpd @ Nom Voltage(Max)(ns): 7.5,5.2,4.2,3.7; Logic: Inverting; Sub-Family: Inverting Buffer/Driver; DatasheetVersion: SCES214AD; PackageReference: DRL0005A; Supplier 1: Mouser; Supplier Part Number 1: 595-SN74LVC1G04DRLR; Supplier 2: Digi-Key; Supplier Part Number 2: 296-18008-2-ND; Supplier 3: Digi-Key; Supplier Part Number 3: 296-18008-1-ND; Supplier 4: Digi-Key; Supplier Part Number 4: 296-18008-6-ND; Operating Temperature Range(C): -40 to 125,-40 to 85; 3-State Output: No; ComponentLink1Description: Manufacturer URL; ComponentLink1URL: http://www.ti.com/; ComponentLink2Description: Datasheet; ComponentLink2URL: http://www.ti.com/lit/ds/symlink/sn74lvc1g04.pdf
footprint DRL0005A_N (SOT23, 5-Leads, Body 1.7x1.3mm, Pitch 0.5mm, IPC Medium Density)
footprint DRL0005A_M (SOT23, 5-Leads, Body 1.7x1.3mm, Pitch 0.5mm, IPC Low Density)
footprint DRL0005A_L (SOT23, 5-Leads, Body 1.7x1.3mm, Pitch 0.5mm, IPC High Density)
part A pins: 2 A (in) "Input A", 4 Y (out) "Output Y"
part B pins: 1 NC "Ground", 3 GND (power) "Ground Pin", 5 VCC (power) "Power Pin"

## SN74LVC1G04DRY2
designator U?
Single Inverter, DRY0006A, LARGE T&R; Generic Part Number: SN74LVC1G04; Manufacturer: Texas Instruments; PartNumber: SN74LVC1G04DRY2; VCC(Min)(V): 1.65; VCC(Max)(V): 5.5; Output Type: CMOS; ICC @ Nom Voltage(Max)(mA): 0.01; Input Type: CMOS/TTL; Bits(#): 1; F @ Nom Voltage(Max)(Mhz): 150; Rating: Catalog; Technology Family: LVC; Voltage(Nom)(V): 1.8,2.5,3.3,5; Schmitt Trigger: No; Output Drive (IOL/IOH)(Max)(mA): 32/-32; tpd @ Nom Voltage(Max)(ns): 7.5,5.2,4.2,3.7; Logic: Inverting; Sub-Family: Inverting Buffer/Driver; DatasheetVersion: SCES214AD; PackageReference: DRY0006A; Supplier 1: Mouser; Supplier Part Number 1: 595-SN74LVC1G04DRY2; Supplier 2: Digi-Key; Supplier Part Number 2: 296-40548-2-ND; Supplier 3: Digi-Key; Supplier Part Number 3: 296-40548-1-ND; Supplier 4: Digi-Key; Supplier Part Number 4: 296-40548-6-ND; Operating Temperature Range(C): -40 to 125,-40 to 85; 3-State Output: No; ComponentLink1Description: Manufacturer URL; ComponentLink1URL: http://www.ti.com/; ComponentLink2Description: Datasheet; ComponentLink2URL: http://www.ti.com/lit/ds/symlink/sn74lvc1g04.pdf
footprint DRY0006A_V (SON, 6-Leads, Body 1.45x1mm, Pitch 0.5mm)
part A pins: 2 A (in), 4 Y (out)
part B pins: 1 NC, 3 GND (power), 5 NC, 6 VCC (power)

## SN74LVC1G04DRYR
designator U?
Single Inverter, DRY0006A, LARGE T&R; Generic Part Number: SN74LVC1G04; Manufacturer: Texas Instruments; PartNumber: SN74LVC1G04DRYR; VCC(Min)(V): 1.65; VCC(Max)(V): 5.5; Output Type: CMOS; ICC @ Nom Voltage(Max)(mA): 0.01; Input Type: CMOS/TTL; Bits(#): 1; F @ Nom Voltage(Max)(Mhz): 150; Rating: Catalog; Technology Family: LVC; Voltage(Nom)(V): 1.8,2.5,3.3,5; Schmitt Trigger: No; Output Drive (IOL/IOH)(Max)(mA): 32/-32; tpd @ Nom Voltage(Max)(ns): 7.5,5.2,4.2,3.7; Logic: Inverting; Sub-Family: Inverting Buffer/Driver; DatasheetVersion: SCES214AD; PackageReference: DRY0006A; Supplier 1: Mouser; Supplier Part Number 1: 595-SN74LVC1G04DRYR; Supplier 2: Digi-Key; Supplier Part Number 2: 296-21814-2-ND; Supplier 3: Digi-Key; Supplier Part Number 3: 296-21814-1-ND; Supplier 4: Digi-Key; Supplier Part Number 4: 296-21814-6-ND; Operating Temperature Range(C): -40 to 125,-40 to 85; 3-State Output: No; ComponentLink1Description: Manufacturer URL; ComponentLink1URL: http://www.ti.com/; ComponentLink2Description: Datasheet; ComponentLink2URL: http://www.ti.com/lit/ds/symlink/sn74lvc1g04.pdf
footprint DRY0006A_V (SON, 6-Leads, Body 1.45x1mm, Pitch 0.5mm)
part A pins: 2 A (in), 4 Y (out)
part B pins: 1 NC, 3 GND (power), 5 NC, 6 VCC (power)

## SN74LVC1G04DSF2
designator U?
Single Inverter, DSF0006A, LARGE T&R; Generic Part Number: SN74LVC1G04; Manufacturer: Texas Instruments; PartNumber: SN74LVC1G04DSF2; VCC(Min)(V): 1.65; VCC(Max)(V): 5.5; Output Type: CMOS; ICC @ Nom Voltage(Max)(mA): 0.01; Input Type: CMOS/TTL; Bits(#): 1; F @ Nom Voltage(Max)(Mhz): 150; Rating: Catalog; Technology Family: LVC; Voltage(Nom)(V): 1.8,2.5,3.3,5; Schmitt Trigger: No; Output Drive (IOL/IOH)(Max)(mA): 32/-32; tpd @ Nom Voltage(Max)(ns): 7.5,5.2,4.2,3.7; Logic: Inverting; Sub-Family: Inverting Buffer/Driver; DatasheetVersion: SCES214AD; PackageReference: DSF0006A; Supplier 1: Mouser; Supplier Part Number 1: 595-SN74LVC1G04DSF2; Supplier 2: Digi-Key; Supplier Part Number 2: 296-29564-2-ND; Supplier 3: Digi-Key; Supplier Part Number 3: 296-29564-1-ND; Supplier 4: Digi-Key; Supplier Part Number 4: 296-29564-6-ND; Operating Temperature Range(C): -40 to 125,-40 to 85; 3-State Output: No; ComponentLink1Description: Manufacturer URL; ComponentLink1URL: http://www.ti.com/; ComponentLink2Description: Datasheet; ComponentLink2URL: http://www.ti.com/lit/ds/symlink/sn74lvc1g04.pdf
footprint DSF0006A_V (SON, 6-Leads, Body 1x1mm, Pitch 0.35mm, TI Recommend)
part A pins: 2 A (in), 4 Y (out)
part B pins: 1 NC, 3 GND (power), 5 NC, 6 VCC (power)

## SN74LVC1G04DSFR
designator U?
Single Inverter, DSF0006A, LARGE T&R; Generic Part Number: SN74LVC1G04; Manufacturer: Texas Instruments; PartNumber: SN74LVC1G04DSFR; VCC(Min)(V): 1.65; VCC(Max)(V): 5.5; Output Type: CMOS; ICC @ Nom Voltage(Max)(mA): 0.01; Input Type: CMOS/TTL; Bits(#): 1; F @ Nom Voltage(Max)(Mhz): 150; Rating: Catalog; Technology Family: LVC; Voltage(Nom)(V): 1.8,2.5,3.3,5; Schmitt Trigger: No; Output Drive (IOL/IOH)(Max)(mA): 32/-32; tpd @ Nom Voltage(Max)(ns): 7.5,5.2,4.2,3.7; Logic: Inverting; Sub-Family: Inverting Buffer/Driver; DatasheetVersion: SCES214AD; PackageReference: DSF0006A; Supplier 1: Mouser; Supplier Part Number 1: 595-SN74LVC1G04DSFR; Supplier 2: Digi-Key; Supplier Part Number 2: 296-29046-2-ND; Supplier 3: Digi-Key; Supplier Part Number 3: 296-29046-1-ND; Supplier 4: Digi-Key; Supplier Part Number 4: 296-29046-6-ND; Operating Temperature Range(C): -40 to 125,-40 to 85; 3-State Output: No; ComponentLink1Description: Manufacturer URL; ComponentLink1URL: http://www.ti.com/; ComponentLink2Description: Datasheet; ComponentLink2URL: http://www.ti.com/lit/ds/symlink/sn74lvc1g04.pdf
footprint DSF0006A_V (SON, 6-Leads, Body 1x1mm, Pitch 0.35mm, TI Recommend)
part A pins: 2 A (in), 4 Y (out)
part B pins: 1 NC, 3 GND (power), 5 NC, 6 VCC (power)

## SN74LVC1G04MDBVREP
designator U?
Enhanced Product Single Inverter Gate, DBV0005A, LARGE T&R; Generic Part Number: SN74LVC1G04-EP; Manufacturer: Texas Instruments; PartNumber: SN74LVC1G04MDBVREP; VCC(Min)(V): 1.65; VCC(Max)(V): 5.5; Output Type: CMOS; ICC @ Nom Voltage(Max)(mA): 0.01; Input Type: CMOS/TTL; Bits(#): 1; F @ Nom Voltage(Max)(Mhz): 150; Rating: HiRel Enhanced Product; Technology Family: LVC; Voltage(Nom)(V): 1.8,2.5,3.3,5; Schmitt Trigger: No; Output Drive (IOL/IOH)(Max)(mA): 32/-32; tpd @ Nom Voltage(Max)(ns): 13.9,8,5.7,4.5; Logic: Inverting; Sub-Family: Inverting Buffer/Driver; DatasheetVersion: SCES691A; PackageReference: DBV0005A; Supplier 1: Mouser; Supplier Part Number 1: 595-SN74LVC04MDBVREP; Supplier 2: Digi-Key; Supplier Part Number 2: 296-22341-2-ND; Supplier 3: Digi-Key; Supplier Part Number 3: 296-22341-1-ND; Supplier 4: Digi-Key; Supplier Part Number 4: 296-22341-6-ND; Operating Temperature Range(C): -55 to 125; 3-State Output: No; ComponentLink1Description: Manufacturer URL; ComponentLink1URL: http://www.ti.com/; ComponentLink2Description: Datasheet; ComponentLink2URL: http://www.ti.com/lit/ds/symlink/sn74lvc1g04-ep.pdf
footprint DBV0005A_N (SOT23, 5-Leads, Body 3.05x1.75mm, Pitch 0.95mm, IPC Medium Density)
footprint DBV0005A_M (SOT23, 5-Leads, Body 3.05x1.75mm, Pitch 0.95mm, IPC Low Density)
footprint DBV0005A_L (SOT23, 5-Leads, Body 3.05x1.75mm, Pitch 0.95mm, IPC High Density)
part A pins: 2 A (in) "Input A", 4 Y (out) "Output Y"
part B pins: 1 NC "Ground", 3 GND (power) "Ground Pin", 5 VCC (power) "Power Pin"

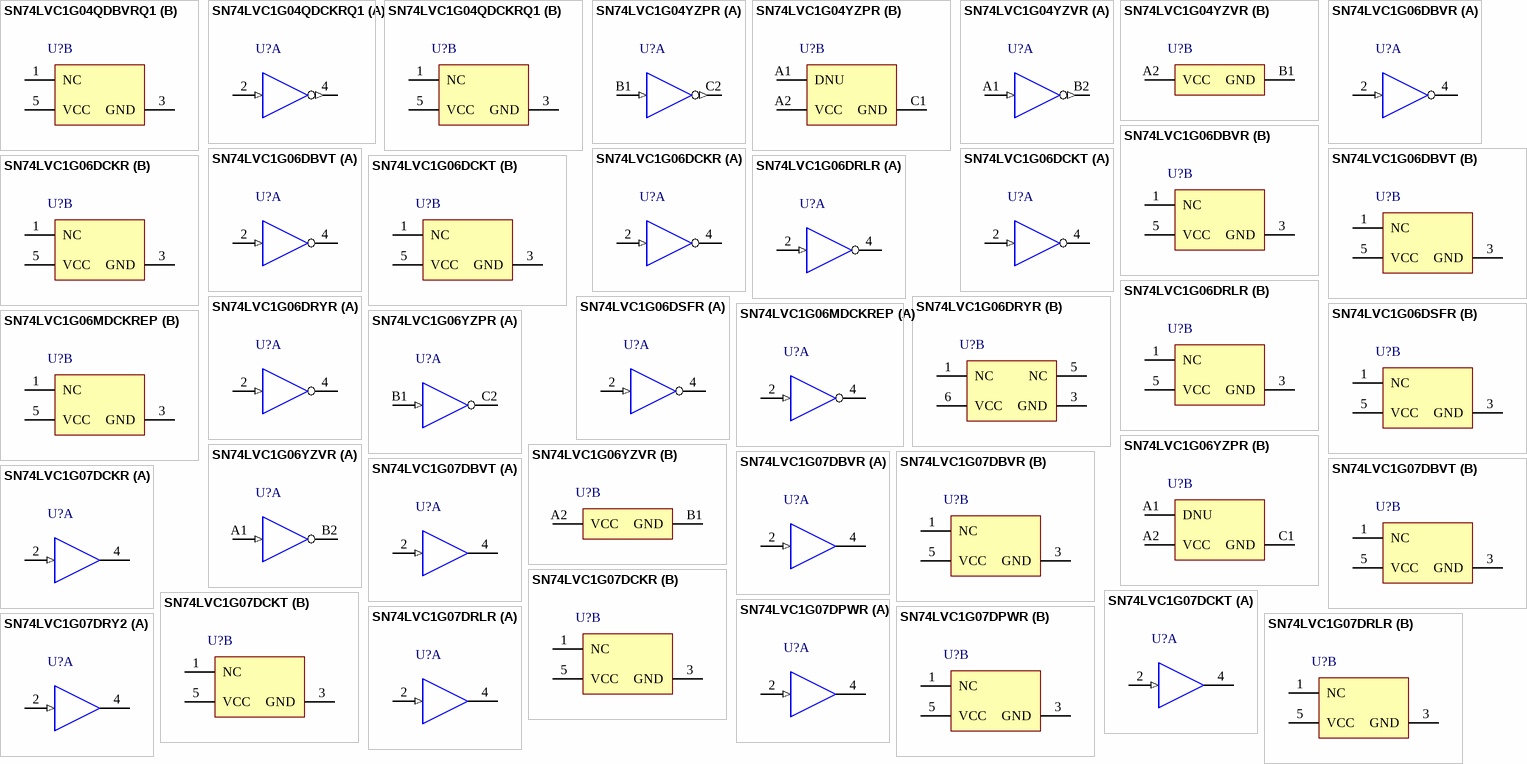
[diagram p35: symbols SN74LVC1G04QDBVRQ1 to SN74LVC1G07DRY2]